# EAGLE library part TIC12400DCPR (library TIC12400DCPR)
24-Input Sensor Monitor With SPI Interface Source: Datasheet <http://www.ti.com/lit/gpn/tic12400>
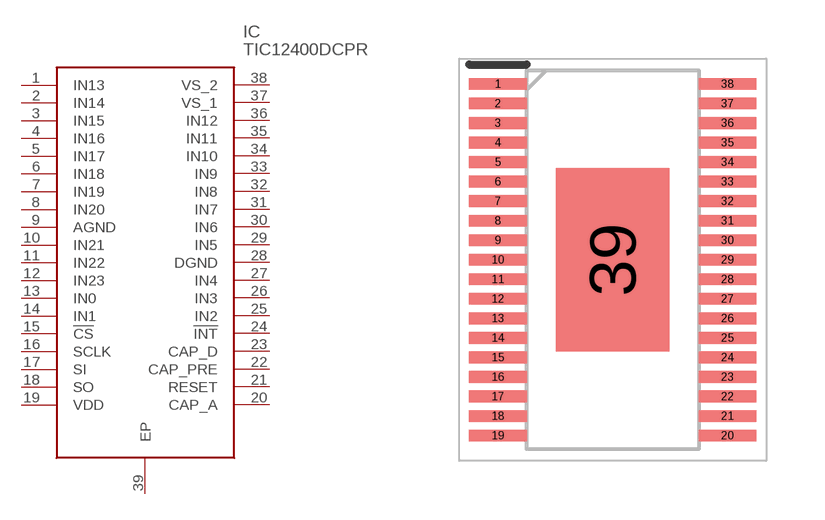
[diagram p0: symbol with the pads of SOP50P640X120-39N; footprint SOP50P640X120-39N]

Designator prefix IC

## TIC12400DCPR (Description: 24-Input Sensor Monitor With SPI Interface; Height: 1.2mm; Manufacturer_Name: Texas Instruments; Manufacturer_Part_Number: TIC12400DCPR; Mouser_Part_Number: 595-TIC12400DCPR; Mouser_Price-Stock: https://www.mouser.co.uk/ProductDetail/Texas-Instruments/TIC12400DCPR?qs=1mbolxNpo8eZDVFvCZLlfw%3D%3D)  [SOP50P640X120-39N]
1  IN13
2  IN14
3  IN15
4  IN16
5  IN17
6  IN18
7  IN19
8  IN20
9  AGND
10  IN21
11  IN22
12  IN23
13  IN0
14  IN1
15  !CS
16  SCLK
17  SI
18  SO
19  VDD
20  CAP_A
21  RESET
22  CAP_PRE
23  CAP_D
24  !INT
25  IN2
26  IN3
27  IN4
28  DGND
29  IN5
30  IN6
31  IN7
32  IN8
33  IN9
34  IN10
35  IN11
36  IN12
37  VS_1
38  VS_2
39  EP

## Footprint SOP50P640X120-39N (pad centres in mm)
DCP0038A
smd 1.475 x 0.3: 1 -2.938,4.5; 2 -2.938,4; 3 -2.938,3.5; 4 -2.938,3; 5 -2.938,2.5; 6 -2.938,2; 7 -2.938,1.5; 8 -2.938,1; 9 -2.938,0.5; 10 -2.938,0; 11 -2.938,-0.5; 12 -2.938,-1; 13 -2.938,-1.5; 14 -2.938,-2; 15 -2.938,-2.5; 16 -2.938,-3; 17 -2.938,-3.5; 18 -2.938,-4; 19 -2.938,-4.5; 20 2.938,-4.5; 21 2.938,-4; 22 2.938,-3.5; 23 2.938,-3; 24 2.938,-2.5; 25 2.938,-2; 26 2.938,-1.5; 27 2.938,-1; 28 2.938,-0.5; 29 2.938,0; 30 2.938,0.5; 31 2.938,1; 32 2.938,1.5; 33 2.938,2; 34 2.938,2.5; 35 2.938,3; 36 2.938,3.5; 37 2.938,4; 38 2.938,4.5
smd 2.9 x 4.7: 39 0,0